# EAGLE library part ISO-AMP (library 1A-meinLib)
Op31, Isolationsverstärkerplatine mit IL300 Optoservo
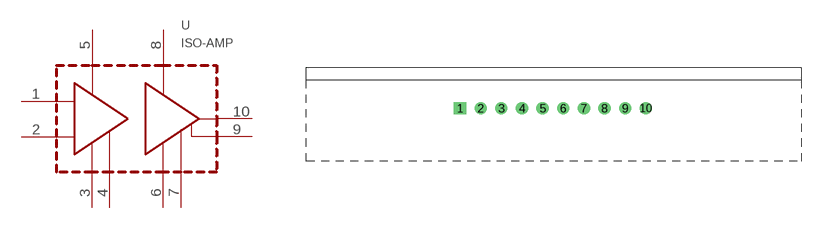
[diagram p252: symbol with the pads of ISO-AMP-NICHTINVERTIEREND; footprint ISO-AMP-NICHTINVERTIEREND]

Designator prefix -

## ISO-AMP  [ISO-AMP-NICHTINVERTIEREND]
1  INPUT  in
2  GND1-IN  pas
3  -15V-IN  pwr
4  GND2-IN  pwr
5  +15V-IN  pwr
6  -15V-OUT  pwr
7  GND2-OUT  pas
8  +15V-OUT  pwr
9  GND1-OUT  pas
10  OUT  pas

## Footprint ISO-AMP-NICHTINVERTIEREND (pad centres in mm)
drill 1 square: 1 0,0
drill 1 round: 2 2.54,0; 3 5.08,0; 4 7.62,0; 5 10.16,0; 6 12.7,0; 7 15.24,0; 8 17.78,0; 9 20.32,0; 10 22.86,0